# Altium schematic symbol library IntelFPGA.SchLib: 8 symbols (part 2 of 2)
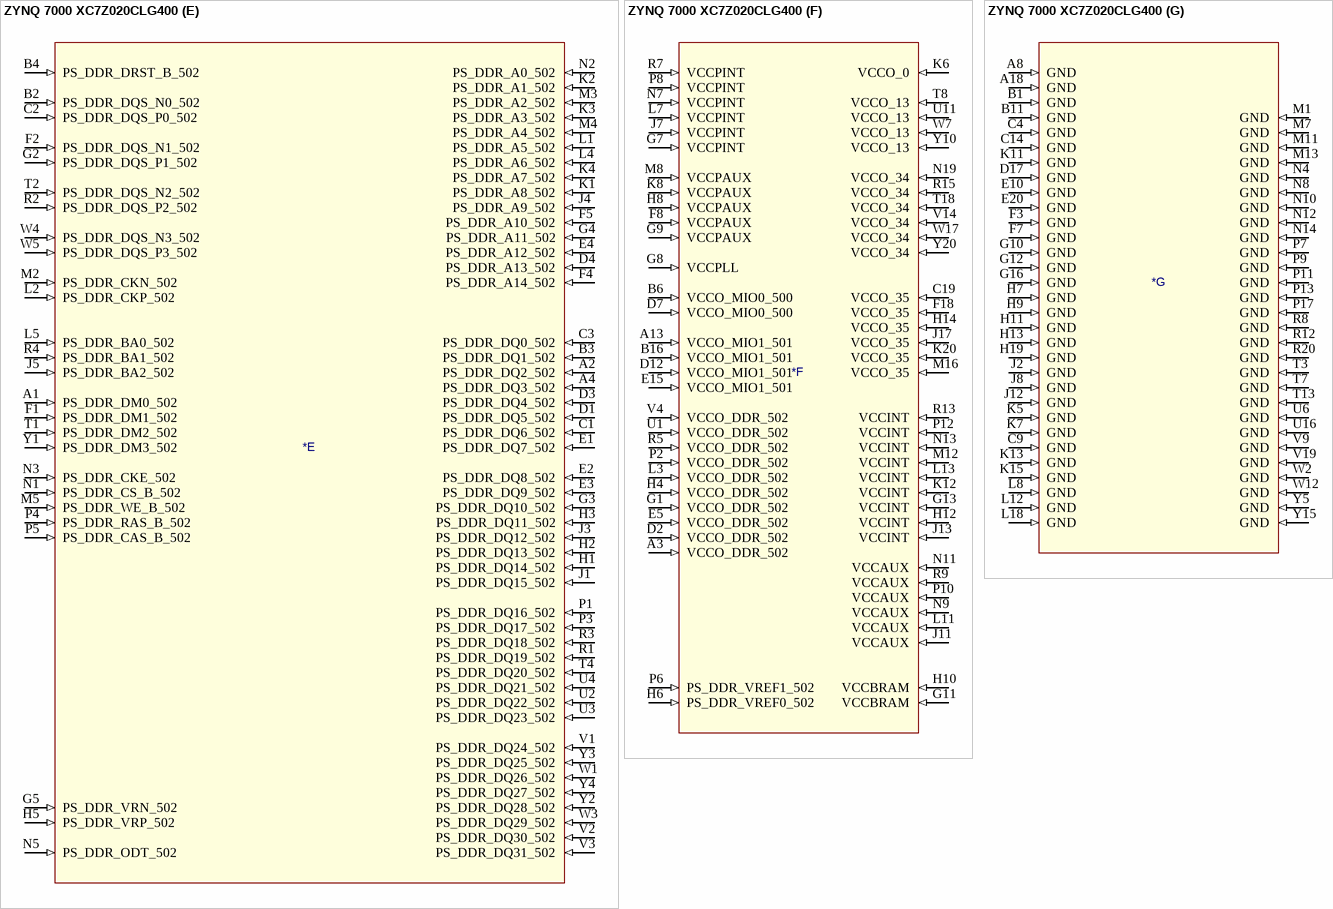
[diagram p11: symbol ZYNQ 7000 XC7Z020CLG400]

## ZYNQ 7000 XC7Z020CLG400
designator *  (value not drawn)
footprint FGG484(ball 0.6, pad 0.5) (FG484 and FGG484 (Artix 7 FPGAs) Wire-Bond Fine-Pitch BGA (1.0 mm Pitch))
part A pins: F6 TDO_0 (out), F9 TCK_0 (in), F10 RSVDGND (in), F11 VCCBATT_0 (in), G6 TDI_0 (in), J6 TMS_0 (in), J9 VCCADC_0 (in), J10 GNDADC_0 (in), K9 VP_0 (in), K10 VREFN_0 (in), L6 PROGRAM_B_0 (in), L9 VREFP_0 (in), L10 VN_0 (in), M6 CFGBVS_0 (in), M9 DXP_0 (in), M10 DXN_0 (in), N6 RSVDVCC3 (in), R6 RSVDVCC2 (in), R10 INIT_B_0 (oc), R11 DONE_0 (io), T6 RSVDVCC1 (in)
part B pins: A5 PS_MIO6_500 (in), A6 PS_MIO5_500 (in), A7 PS_MIO1_500 (in), A9 PS_MIO43_501 (in), A10 PS_MIO37_501 (in), A11 PS_MIO36_501 (in), A12 PS_MIO34_501 (in), A14 PS_MIO32_501 (in), A15 PS_MIO26_501 (in), A16 PS_MIO24_501 (in), A17 PS_MIO20_501 (in), A19 PS_MIO16_501 (in), B5 PS_MIO9_500 (in), B7 PS_MIO4_500 (in), B8 PS_MIO2_500 (in), B9 PS_MIO51_501 (in), B10 PS_SRST_B_501 (in), B12 PS_MIO48_501 (in), B13 PS_MIO50_501 (in), B14 PS_MIO47_501 (in), B15 PS_MIO45_501 (in), B17 PS_MIO22_501 (in), B18 PS_MIO18_501 (in), C5 PS_MIO14_500 (in), C6 PS_MIO11_500 (in), C7 PS_POR_B_500 (in), C8 PS_MIO15_500 (in), C10 PS_MIO52_501 (in), C11 PS_MIO53_501 (in), C12 PS_MIO49_501 (in), C13 PS_MIO29_501 (in), C15 PS_MIO30_501 (in), C16 PS_MIO28_501 (in), C17 PS_MIO41_501 (in), C18 PS_MIO39_501 (in), D5 PS_MIO8_500 (in), D6 PS_MIO3_500 (in), D8 PS_MIO7_500 (in), D9 PS_MIO12_500 (in), D10 PS_MIO19_501 (in), D11 PS_MIO23_501 (in), D13 PS_MIO27_501 (in), D14 PS_MIO40_501 (in), D15 PS_MIO33_501 (in), D16 PS_MIO46_501 (in), E6 PS_MIO0_500 (in), E7 PS_CLK_500 (in), E8 PS_MIO13_500 (in), E9 PS_MIO10_500 (in), E11 PS_MIO_VREF_501 (in), E12 PS_MIO42_501 (in), E13 PS_MIO38_501 (in), E14 PS_MIO17_501 (in), E16 PS_MIO31_501 (in), F12 PS_MIO35_501 (in), F13 PS_MIO44_501 (in), F14 PS_MIO21_501 (in), F15 PS_MIO25_501 (in)
part C pins: N17 IO_L23P_T3_34 (io), N18 IO_L13P_T2_MRCC_34 (io), N20 IO_L14P_T2_SRCC_34 (io), P14 IO_L6P_T0_34 (io), P15 IO_L24P_T3_34 (io), P16 IO_L24N_T3_34 (io), P18 IO_L23N_T3_34 (io), P19 IO_L13N_T2_MRCC_34 (io), P20 IO_L14N_T2_SRCC_34 (io), R14 IO_L6N_T0_VREF_34 (io), R16 IO_L19P_T3_34 (io), R17 IO_L19N_T3_VREF_34 (io), R18 IO_L20N_T3_34 (io), R19 IO_0_34 (io), T5 IO_L19P_T3_13 (io), T9 IO_L12P_T1_MRCC_13 (io), T10 IO_L1N_T0_34 (io), T11 IO_L1P_T0_34 (io), T12 IO_L2P_T0_34 (io), T14 IO_L5P_T0_34 (io), T15 IO_L5N_T0_34 (io), T16 IO_L9P_T1_DQS_34 (io), T17 IO_L20P_T3_34 (io), T19 IO_25_34 (io), T20 IO_L15P_T2_DQS_34 (io), U5 IO_L19N_T3_VREF_13 (io), U7 IO_L11P_T1_SRCC_13 (io), U8 IO_L17N_T2_13 (io), U9 IO_L17P_T2_13 (io), U10 IO_L12N_T1_MRCC_13 (io), U12 IO_L2N_T0_34 (io), U13 IO_L3P_T0_DQS_PUDC_B_34 (io), U14 IO_L11P_T1_SRCC_34 (io), U15 IO_L11N_T1_SRCC_34 (io), U17 IO_L9N_T1_DQS_34 (io), U18 IO_L12P_T1_MRCC_34 (io), U19 IO_L12N_T1_MRCC_34 (io), U20 IO_L15N_T2_DQS_34 (io), V5 IO_L6N_T0_VREF_13 (io), V6 IO_L22P_T3_13 (io), V7 IO_L11N_T1_SRCC_13 (io), V8 IO_L15P_T2_DQS_13 (io), V10 IO_L21N_T3_DQS_13 (io), V11 IO_L21P_T3_DQS_13 (io), V12 IO_L4P_T0_34 (io), V13 IO_L3N_T0_DQS_34 (io), V15 IO_L10P_T1_34 (io), V16 IO_L18P_T2_34 (io), V17 IO_L21P_T3_DQS_34 (io), V18 IO_L21N_T3_DQS_34 (io), V20 IO_L16P_T2_34 (io), W6 IO_L22N_T3_13 (io), W8 IO_L15N_T2_DQS_13 (io), W9 IO_L16N_T2_13 (io), W10 IO_L16P_T2_13 (io), W11 IO_L18P_T2_13 (io), W13 IO_L4N_T0_34 (io), W14 IO_L8P_T1_34 (io), W15 IO_L10N_T1_34 (io), W16 IO_L18N_T2_34 (io), W18 IO_L22P_T3_34 (io), W19 IO_L22N_T3_34 (io), W20 IO_L16N_T2_34 (io), Y6 IO_L13N_T2_MRCC_13 (io), Y7 IO_L13P_T2_MRCC_13 (io), Y8 IO_L14N_T2_SRCC_13 (io), Y9 IO_L14P_T2_SRCC_13 (io), Y11 IO_L18N_T2_13 (io), Y12 IO_L20P_T3_13 (io), Y13 IO_L20N_T3_13 (io), Y14 IO_L8N_T1_34 (io), Y16 IO_L7P_T1_34 (io), Y17 IO_L7N_T1_34 (io), Y18 IO_L17P_T2_34 (io), Y19 IO_L17N_T2_34 (io)
part D pins: A20 IO_L2N_T0_AD8N_35 (io), B19 IO_L2P_T0_AD8P_35 (io), B20 IO_L1N_T0_AD0N_35 (io), C20 IO_L1P_T0_AD0P_35 (io), D18 IO_L3N_T0_DQS_AD1N_35 (io), D19 IO_L4P_T0_35 (io), D20 IO_L4N_T0_35 (io), E17 IO_L3P_T0_DQS_AD1P_35 (io), E18 IO_L5P_T0_AD9P_35 (io), E19 IO_L5N_T0_AD9N_35 (io), F16 IO_L6P_T0_35 (io), F17 IO_L6N_T0_VREF_35 (io), F19 IO_L15P_T2_DQS_AD12P_35 (io), F20 IO_L15N_T2_DQS_AD12N_35 (io), G14 IO_0_35 (io), G15 IO_L19N_T3_VREF_35 (io), G17 IO_L16P_T2_35 (io), G18 IO_L16N_T2_35 (io), G19 IO_L18P_T2_AD13P_35 (io), G20 IO_L18N_T2_AD13N_35 (io), H15 IO_L19P_T3_35 (io), H16 IO_L13P_T2_MRCC_35 (io), H17 IO_L13N_T2_MRCC_35 (io), H18 IO_L14N_T2_AD4N_SRCC_35 (io), H20 IO_L17N_T2_AD5N_35 (io), J14 IO_L20N_T3_AD6N_35 (io), J15 IO_25_35 (io), J16 IO_L24N_T3_AD15N_35 (io), J18 IO_L14P_T2_AD4P_SRCC_35 (io), J19 IO_L10N_T1_AD11N_35 (io), J20 IO_L17P_T2_AD5P_35 (io), K14 IO_L20P_T3_AD6P_35 (io), K16 IO_L24P_T3_AD15P_35 (io), K17 IO_L12P_T1_MRCC_35 (io), K18 IO_L12N_T1_MRCC_35 (io), K19 IO_L10P_T1_AD11P_35 (io), L14 IO_L22P_T3_AD7P_35 (io), L15 IO_L22N_T3_AD7N_35 (io), L16 IO_L11P_T1_SRCC_35 (io), L17 IO_L11N_T1_SRCC_35 (io), L19 IO_L9P_T1_DQS_AD3P_35 (io), L20 IO_L9N_T1_DQS_AD3N_35 (io), M14 IO_L23P_T3_35 (io), M15 IO_L23N_T3_35 (io), M17 IO_L8P_T1_AD10P_35 (io), M18 IO_L8N_T1_AD10N_35 (io), M19 IO_L7P_T1_AD2P_35 (io), M20 IO_L7N_T1_AD2N_35 (io), N15 IO_L21P_T3_DQS_AD14P_35 (io), N16 IO_L21N_T3_DQS_AD14N_35 (io)
part E pins: A1 PS_DDR_DM0_502 (in), A2 PS_DDR_DQ2_502 (in), A4 PS_DDR_DQ3_502 (in), B2 PS_DDR_DQS_N0_502 (in), B3 PS_DDR_DQ1_502 (in), B4 PS_DDR_DRST_B_502 (in), C1 PS_DDR_DQ6_502 (in), C2 PS_DDR_DQS_P0_502 (in), C3 PS_DDR_DQ0_502 (in), D1 PS_DDR_DQ5_502 (in), D3 PS_DDR_DQ4_502 (in), D4 PS_DDR_A13_502 (in), E1 PS_DDR_DQ7_502 (in), E2 PS_DDR_DQ8_502 (in), E3 PS_DDR_DQ9_502 (in), E4 PS_DDR_A12_502 (in), F1 PS_DDR_DM1_502 (in), F2 PS_DDR_DQS_N1_502 (in), F4 PS_DDR_A14_502 (in), F5 PS_DDR_A10_502 (in), G2 PS_DDR_DQS_P1_502 (in), G3 PS_DDR_DQ10_502 (in), G4 PS_DDR_A11_502 (in), G5 PS_DDR_VRN_502 (in), H1 PS_DDR_DQ14_502 (in), H2 PS_DDR_DQ13_502 (in), H3 PS_DDR_DQ11_502 (in), H5 PS_DDR_VRP_502 (in), J1 PS_DDR_DQ15_502 (in), J3 PS_DDR_DQ12_502 (in), J4 PS_DDR_A9_502 (in), J5 PS_DDR_BA2_502 (in), K1 PS_DDR_A8_502 (in), K2 PS_DDR_A1_502 (in), K3 PS_DDR_A3_502 (in), K4 PS_DDR_A7_502 (in), L1 PS_DDR_A5_502 (in), L2 PS_DDR_CKP_502 (in), L4 PS_DDR_A6_502 (in), L5 PS_DDR_BA0_502 (in), M2 PS_DDR_CKN_502 (in), M3 PS_DDR_A2_502 (in), M4 PS_DDR_A4_502 (in), M5 PS_DDR_WE_B_502 (in), N1 PS_DDR_CS_B_502 (in), N2 PS_DDR_A0_502 (in), N3 PS_DDR_CKE_502 (in), N5 PS_DDR_ODT_502 (in), P1 PS_DDR_DQ16_502 (in), P3 PS_DDR_DQ17_502 (in), P4 PS_DDR_RAS_B_502 (in), P5 PS_DDR_CAS_B_502 (in), R1 PS_DDR_DQ19_502 (in), R2 PS_DDR_DQS_P2_502 (in), R3 PS_DDR_DQ18_502 (in), R4 PS_DDR_BA1_502 (in), T1 PS_DDR_DM2_502 (in), T2 PS_DDR_DQS_N2_502 (in), T4 PS_DDR_DQ20_502 (in), U2 PS_DDR_DQ22_502 (in), U3 PS_DDR_DQ23_502 (in), U4 PS_DDR_DQ21_502 (in), V1 PS_DDR_DQ24_502 (in), V2 PS_DDR_DQ30_502 (in), V3 PS_DDR_DQ31_502 (in), W1 PS_DDR_DQ26_502 (in), W3 PS_DDR_DQ29_502 (in), W4 PS_DDR_DQS_N3_502 (in), W5 PS_DDR_DQS_P3_502 (in), Y1 PS_DDR_DM3_502 (in), Y2 PS_DDR_DQ28_502 (in), Y3 PS_DDR_DQ25_502 (in), Y4 PS_DDR_DQ27_502 (in)
part F pins: A3 VCCO_DDR_502 (in), A13 VCCO_MIO1_501 (in), B6 VCCO_MIO0_500 (in), B16 VCCO_MIO1_501 (in), C19 VCCO_35 (in), D2 VCCO_DDR_502 (in), D7 VCCO_MIO0_500 (in), D12 VCCO_MIO1_501 (in), E5 VCCO_DDR_502 (in), E15 VCCO_MIO1_501 (in), F8 VCCPAUX (in), F18 VCCO_35 (in), G1 VCCO_DDR_502 (in), G7 VCCPINT (in), G8 VCCPLL (in), G9 VCCPAUX (in), G11 VCCBRAM (in), G13 VCCINT (in), H4 VCCO_DDR_502 (in), H6 PS_DDR_VREF0_502 (in), H8 VCCPAUX (in), H10 VCCBRAM (in), H12 VCCINT (in), H14 VCCO_35 (in), J7 VCCPINT (in), J11 VCCAUX (in), J13 VCCINT (in), J17 VCCO_35 (in), K6 VCCO_0 (in), K8 VCCPAUX (in), K12 VCCINT (in), K20 VCCO_35 (in), L3 VCCO_DDR_502 (in), L7 VCCPINT (in), L11 VCCAUX (in), L13 VCCINT (in), M8 VCCPAUX (in), M12 VCCINT (in), M16 VCCO_35 (in), N7 VCCPINT (in), N9 VCCAUX (in), N11 VCCAUX (in), N13 VCCINT (in), N19 VCCO_34 (in), P2 VCCO_DDR_502 (in), P6 PS_DDR_VREF1_502 (in), P8 VCCPINT (in), P10 VCCAUX (in), P12 VCCINT (in), R5 VCCO_DDR_502 (in), R7 VCCPINT (in), R9 VCCAUX (in), R13 VCCINT (in), R15 VCCO_34 (in), T8 VCCO_13 (in), T18 VCCO_34 (in), U1 VCCO_DDR_502 (in), U11 VCCO_13 (in), V4 VCCO_DDR_502 (in), V14 VCCO_34 (in), W7 VCCO_13 (in), W17 VCCO_34 (in), Y10 VCCO_13 (in), Y20 VCCO_34 (in)
part G pins: A8 GND (in), A18 GND (in), B1 GND (in), B11 GND (in), C4 GND (in), C9 GND (in), C14 GND (in), D17 GND (in), E10 GND (in), E20 GND (in), F3 GND (in), F7 GND (in), G10 GND (in), G12 GND (in), G16 GND (in), H7 GND (in), H9 GND (in), H11 GND (in), H13 GND (in), H19 GND (in), J2 GND (in), J8 GND (in), J12 GND (in), K5 GND (in), K7 GND (in), K11 GND (in), K13 GND (in), K15 GND (in), L8 GND (in), L12 GND (in), L18 GND (in), M1 GND (in), M7 GND (in), M11 GND (in), M13 GND (in), N4 GND (in), N8 GND (in), N10 GND (in), N12 GND (in), N14 GND (in), P7 GND (in), P9 GND (in), P11 GND (in), P13 GND (in), P17 GND (in), R8 GND (in), R12 GND (in), R20 GND (in), T3 GND (in), T7 GND (in), T13 GND (in), U6 GND (in), U16 GND (in), V9 GND (in), V19 GND (in), W2 GND (in), W12 GND (in), Y5 GND (in), Y15 GND (in)